# Altium schematic symbol library EVQ-P7B01P.SchLib: 1 symbol
Pins are listed as number, name and electrical type; pins without a type are passive.

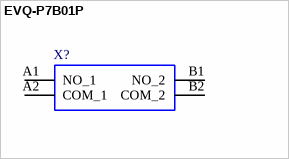
[diagram p0: symbol EVQ-P7B01P]

## EVQ-P7B01P
designator X?
SWITCH, TACTILE, SPST-NO, 50mA, 12VDC, SMD; Product Range:EVQP7 Series; Actuator Orientation:Side Actuated; Switch Mounting:Surface Mount; Actuator Style:Rectangular Button; Actuating Force:220gf; Contact Rating:50mA at 12VDC RoHS Compliant: Yes; Manufacturer_Name: Panasonic; Geometry.Height: 1.55mm; Manufacturer_Part_Number: EVQ-P7B01P; Mouser Part Number: 667-EVQP7B01P; Mouser Price/Stock: https://www.mouser.co.uk/ProductDetail/Panasonic/EVQ-P7B01P?qs=rJ%252BziJWpysy7zJMMjBY36A%3D%3D; Arrow Part Number: EVQ-P7B01P; Arrow Price/Stock: https://www.arrow.com/en/products/evq-p7b01p/panasonic; Mouser Testing Part Number: *; Mouser Testing Price/Stock: *; Datasheet Link: https://www.mouser.com/datasheet/2/315/sw_lt_eng_3529s_side-1289027.pdf
footprint EVQP7B01P
pins: A1 NO_1, A2 COM_1, B1 NO_2, B2 COM_2